# Altium schematic symbol library APE8865Y5-18-HF-3_1V8_0A3.Schlib: 1 symbol
Pins are listed as number, name and electrical type; pins without a type are passive.

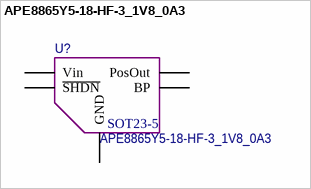
[diagram p0: symbol APE8865Y5-18-HF-3_1V8_0A3]

## APE8865Y5-18-HF-3_1V8_0A3
designator U?
VOLT_REG_APE8865Y5-18-HF-3
pins: 1 Vin, 2 GND, 3 ~{SHDN}, 4 BP, 5 PosOut
text: SOT23-5